# Altium schematic symbol library MMBT3904.Schlib: 1 symbol
Pins are listed as number, name and electrical type; pins without a type are passive.

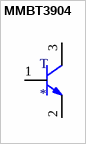
[diagram p0: symbol MMBT3904]

## MMBT3904
designator T
TRANS NPN 40V 200MA SOT23 NXP Semiconducters
pins: 1, 2, 3